# Altium schematic symbol library SCH - MCU - STM32 - ST MICROELECTRONICS STM32L4P5QGIXS UFBGA132.SchLib: 1 symbol
Pins are listed as number, name and electrical type; pins without a type are passive.

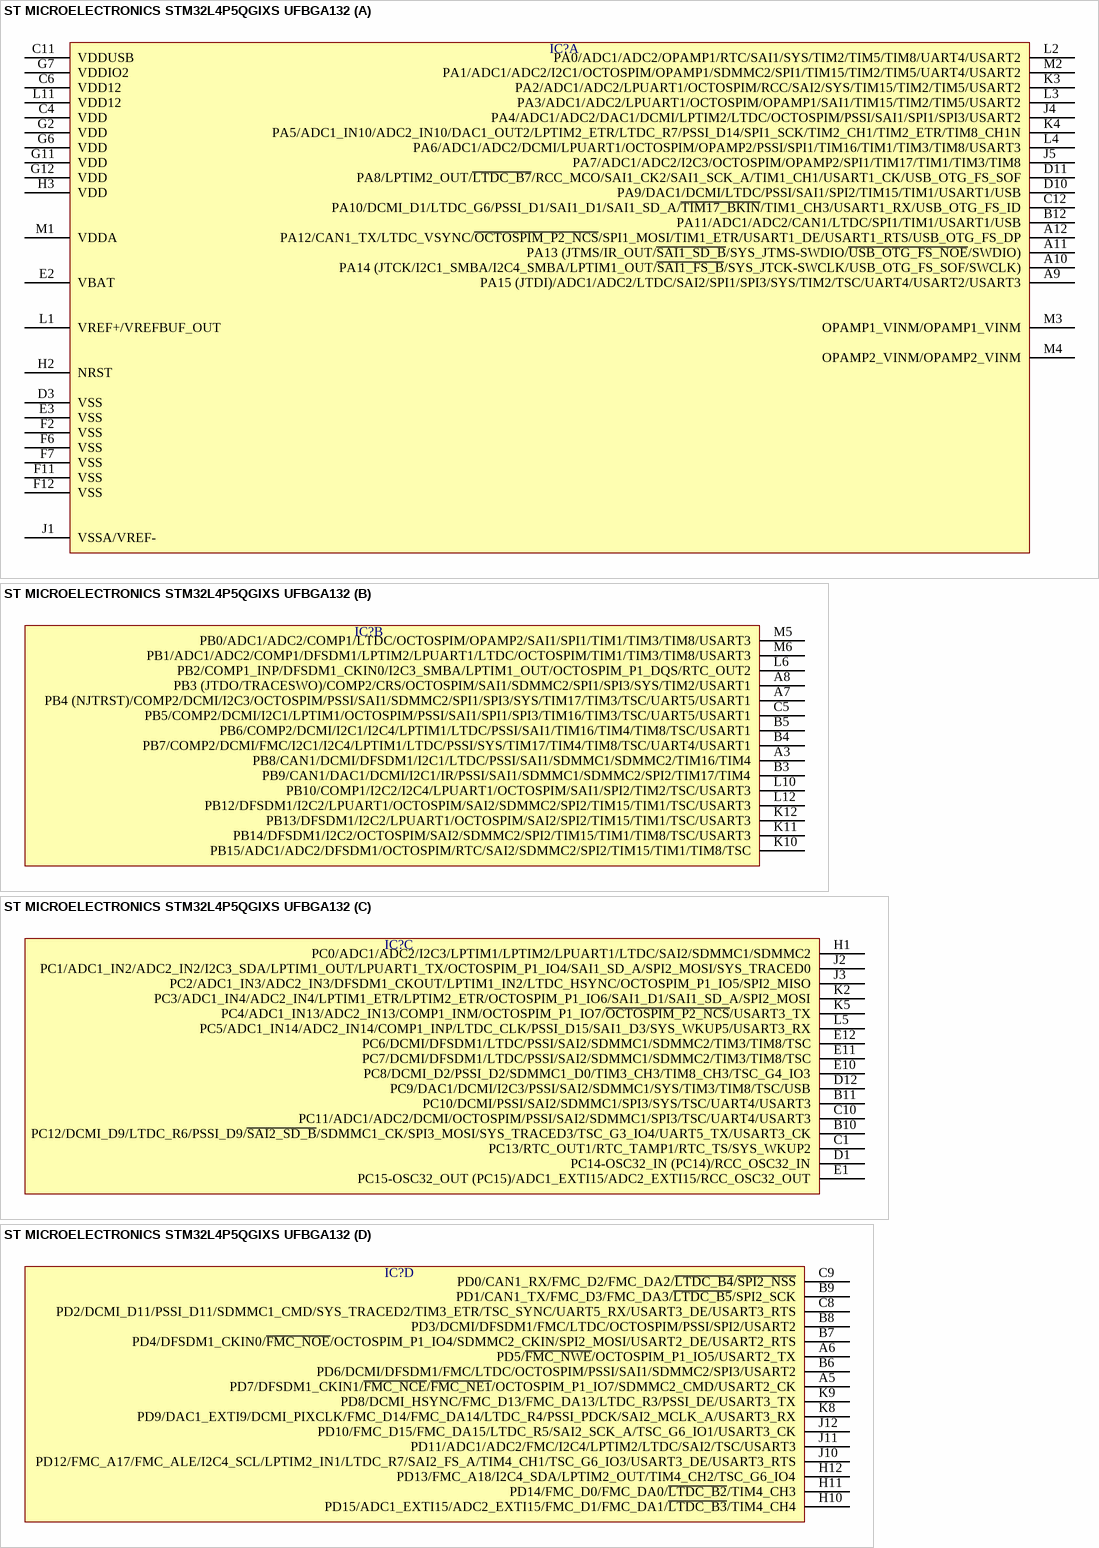
[diagram p0: symbol ST MICROELECTRONICS STM32L4P5QGIXS UFBGA132]

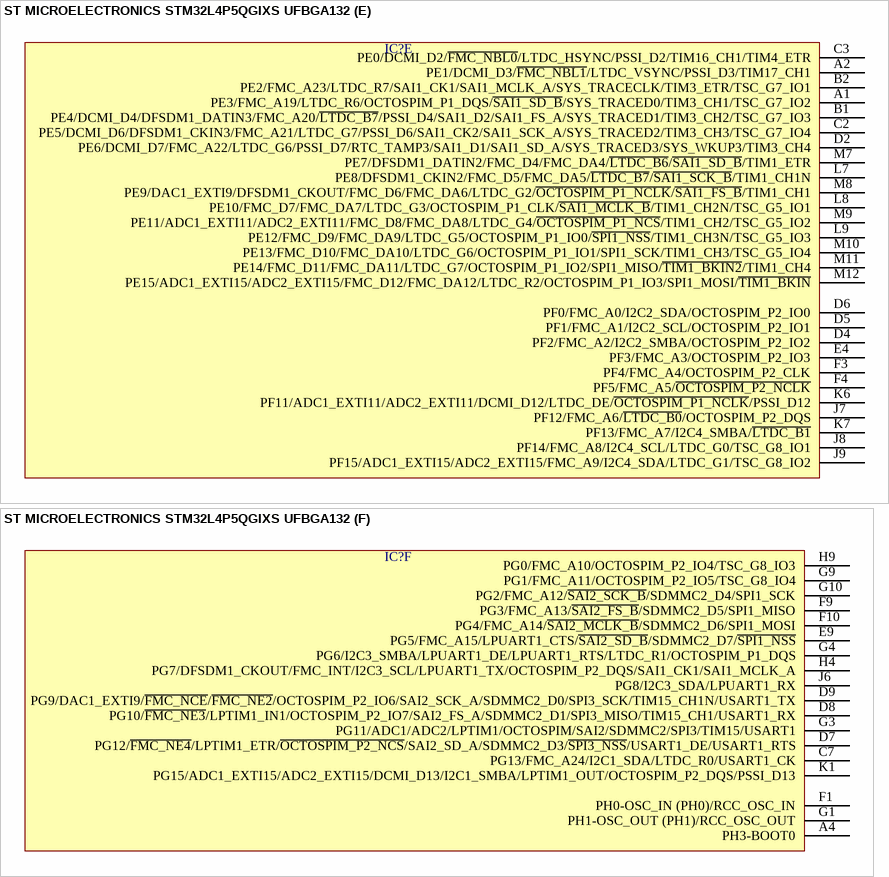
[diagram p1: symbol ST MICROELECTRONICS STM32L4P5QGIXS UFBGA132]

## ST MICROELECTRONICS STM32L4P5QGIXS UFBGA132
designator IC?  (value not drawn)
part A pins: A9 PA15 (JTDI)/ADC1/ADC2/LTDC/SAI2/SPI1/SPI3/SYS/TIM2/TSC/UART4/USART2/USART3, A10 PA14 (JTCK/I2C1_SMBA/I2C4_SMBA/LPTIM1_OUT/~{SAI1_FS_B}/SYS_JTCK-SWCLK/USB_OTG_FS_SOF/SWCLK), A11 PA13 (JTMS/IR_OUT/~{SAI1_SD_B}/SYS_JTMS-SWDIO/~{USB_OTG_FS_NOE}/SWDIO), A12 PA12/CAN1_TX/LTDC_VSYNC/~{OCTOSPIM_P2_NCS}/SPI1_MOSI/TIM1_ETR/USART1_DE/USART1_RTS/USB_OTG_FS_DP, B12 PA11/ADC1/ADC2/CAN1/LTDC/SPI1/TIM1/USART1/USB, C4 VDD, C6 VDD12, C11 VDDUSB, C12 PA10/DCMI_D1/LTDC_G6/PSSI_D1/SAI1_D1/SAI1_SD_A/~{TIM17_BKIN}/TIM1_CH3/USART1_RX/USB_OTG_FS_ID, D3 VSS, D10 PA9/DAC1/DCMI/LTDC/PSSI/SAI1/SPI2/TIM15/TIM1/USART1/USB, D11 PA8/LPTIM2_OUT/~{LTDC_B7}/RCC_MCO/SAI1_CK2/SAI1_SCK_A/TIM1_CH1/USART1_CK/USB_OTG_FS_SOF, E2 VBAT, E3 VSS, F2 VSS, F6 VSS, F7 VSS, F11 VSS, F12 VSS, G2 VDD, G6 VDD, G7 VDDIO2, G11 VDD, G12 VDD, H2 NRST, H3 VDD, J1 VSSA/VREF-, J4 PA4/ADC1/ADC2/DAC1/DCMI/LPTIM2/LTDC/OCTOSPIM/PSSI/SAI1/SPI1/SPI3/USART2, J5 PA7/ADC1/ADC2/I2C3/OCTOSPIM/OPAMP2/SPI1/TIM17/TIM1/TIM3/TIM8, K3 PA2/ADC1/ADC2/LPUART1/OCTOSPIM/RCC/SAI2/SYS/TIM15/TIM2/TIM5/USART2, K4 PA5/ADC1_IN10/ADC2_IN10/DAC1_OUT2/LPTIM2_ETR/LTDC_R7/PSSI_D14/SPI1_SCK/TIM2_CH1/TIM2_ETR/TIM8_CH1N, L1 VREF+/VREFBUF_OUT, L2 PA0/ADC1/ADC2/OPAMP1/RTC/SAI1/SYS/TIM2/TIM5/TIM8/UART4/USART2, L3 PA3/ADC1/ADC2/LPUART1/OCTOSPIM/OPAMP1/SAI1/TIM15/TIM2/TIM5/USART2, L4 PA6/ADC1/ADC2/DCMI/LPUART1/OCTOSPIM/OPAMP2/PSSI/SPI1/TIM16/TIM1/TIM3/TIM8/USART3, L11 VDD12, M1 VDDA, M2 PA1/ADC1/ADC2/I2C1/OCTOSPIM/OPAMP1/SDMMC2/SPI1/TIM15/TIM2/TIM5/UART4/USART2, M3 OPAMP1_VINM/OPAMP1_VINM, M4 OPAMP2_VINM/OPAMP2_VINM
part B pins: A3 PB8/CAN1/DCMI/DFSDM1/I2C1/LTDC/PSSI/SAI1/SDMMC1/SDMMC2/TIM16/TIM4, A7 PB4 (NJTRST)/COMP2/DCMI/I2C3/OCTOSPIM/PSSI/SAI1/SDMMC2/SPI1/SPI3/SYS/TIM17/TIM3/TSC/UART5/USART1, A8 PB3 (JTDO/TRACESWO)/COMP2/CRS/OCTOSPIM/SAI1/SDMMC2/SPI1/SPI3/SYS/TIM2/USART1, B3 PB9/CAN1/DAC1/DCMI/I2C1/IR/PSSI/SAI1/SDMMC1/SDMMC2/SPI2/TIM17/TIM4, B4 PB7/COMP2/DCMI/FMC/I2C1/I2C4/LPTIM1/LTDC/PSSI/SYS/TIM17/TIM4/TIM8/TSC/UART4/USART1, B5 PB6/COMP2/DCMI/I2C1/I2C4/LPTIM1/LTDC/PSSI/SAI1/TIM16/TIM4/TIM8/TSC/USART1, C5 PB5/COMP2/DCMI/I2C1/LPTIM1/OCTOSPIM/PSSI/SAI1/SPI1/SPI3/TIM16/TIM3/TSC/UART5/USART1, K10 PB15/ADC1/ADC2/DFSDM1/OCTOSPIM/RTC/SAI2/SDMMC2/SPI2/TIM15/TIM1/TIM8/TSC, K11 PB14/DFSDM1/I2C2/OCTOSPIM/SAI2/SDMMC2/SPI2/TIM15/TIM1/TIM8/TSC/USART3, K12 PB13/DFSDM1/I2C2/LPUART1/OCTOSPIM/SAI2/SPI2/TIM15/TIM1/TSC/USART3, L6 PB2/COMP1_INP/DFSDM1_CKIN0/I2C3_SMBA/LPTIM1_OUT/OCTOSPIM_P1_DQS/RTC_OUT2, L10 PB10/COMP1/I2C2/I2C4/LPUART1/OCTOSPIM/SAI1/SPI2/TIM2/TSC/USART3, L12 PB12/DFSDM1/I2C2/LPUART1/OCTOSPIM/SAI2/SDMMC2/SPI2/TIM15/TIM1/TSC/USART3, M5 PB0/ADC1/ADC2/COMP1/LTDC/OCTOSPIM/OPAMP2/SAI1/SPI1/TIM1/TIM3/TIM8/USART3, M6 PB1/ADC1/ADC2/COMP1/DFSDM1/LPTIM2/LPUART1/LTDC/OCTOSPIM/TIM1/TIM3/TIM8/USART3
part C pins: B10 PC12/DCMI_D9/LTDC_R6/PSSI_D9/~{SAI2_SD_B}/SDMMC1_CK/SPI3_MOSI/SYS_TRACED3/TSC_G3_IO4/UART5_TX/USART3_CK, B11 PC10/DCMI/PSSI/SAI2/SDMMC1/SPI3/SYS/TSC/UART4/USART3, C1 PC13/RTC_OUT1/RTC_TAMP1/RTC_TS/SYS_WKUP2, C10 PC11/ADC1/ADC2/DCMI/OCTOSPIM/PSSI/SAI2/SDMMC1/SPI3/TSC/UART4/USART3, D1 PC14-OSC32_IN (PC14)/RCC_OSC32_IN, D12 PC9/DAC1/DCMI/I2C3/PSSI/SAI2/SDMMC1/SYS/TIM3/TIM8/TSC/USB, E1 PC15-OSC32_OUT (PC15)/ADC1_EXTI15/ADC2_EXTI15/RCC_OSC32_OUT, E10 PC8/DCMI_D2/PSSI_D2/SDMMC1_D0/TIM3_CH3/TIM8_CH3/TSC_G4_IO3, E11 PC7/DCMI/DFSDM1/LTDC/PSSI/SAI2/SDMMC1/SDMMC2/TIM3/TIM8/TSC, E12 PC6/DCMI/DFSDM1/LTDC/PSSI/SAI2/SDMMC1/SDMMC2/TIM3/TIM8/TSC, H1 PC0/ADC1/ADC2/I2C3/LPTIM1/LPTIM2/LPUART1/LTDC/SAI2/SDMMC1/SDMMC2, J2 PC1/ADC1_IN2/ADC2_IN2/I2C3_SDA/LPTIM1_OUT/LPUART1_TX/OCTOSPIM_P1_IO4/SAI1_SD_A/SPI2_MOSI/SYS_TRACED0, J3 PC2/ADC1_IN3/ADC2_IN3/DFSDM1_CKOUT/LPTIM1_IN2/LTDC_HSYNC/OCTOSPIM_P1_IO5/SPI2_MISO, K2 PC3/ADC1_IN4/ADC2_IN4/LPTIM1_ETR/LPTIM2_ETR/OCTOSPIM_P1_IO6/SAI1_D1/SAI1_SD_A/SPI2_MOSI, K5 PC4/ADC1_IN13/ADC2_IN13/COMP1_INM/OCTOSPIM_P1_IO7/~{OCTOSPIM_P2_NCS}/USART3_TX, L5 PC5/ADC1_IN14/ADC2_IN14/COMP1_INP/LTDC_CLK/PSSI_D15/SAI1_D3/SYS_WKUP5/USART3_RX
part D pins: A5 PD7/DFSDM1_CKIN1/~{FMC_NCE}/~{FMC_NE1}/OCTOSPIM_P1_IO7/SDMMC2_CMD/USART2_CK, A6 PD5/~{FMC_NWE}/OCTOSPIM_P1_IO5/USART2_TX, B6 PD6/DCMI/DFSDM1/FMC/LTDC/OCTOSPIM/PSSI/SAI1/SDMMC2/SPI3/USART2, B7 PD4/DFSDM1_CKIN0/~{FMC_NOE}/OCTOSPIM_P1_IO4/SDMMC2_CKIN/SPI2_MOSI/USART2_DE/USART2_RTS, B8 PD3/DCMI/DFSDM1/FMC/LTDC/OCTOSPIM/PSSI/SPI2/USART2, B9 PD1/CAN1_TX/FMC_D3/FMC_DA3/~{LTDC_B5}/SPI2_SCK, C8 PD2/DCMI_D11/PSSI_D11/SDMMC1_CMD/SYS_TRACED2/TIM3_ETR/TSC_SYNC/UART5_RX/USART3_DE/USART3_RTS, C9 PD0/CAN1_RX/FMC_D2/FMC_DA2/~{LTDC_B4}/~{SPI2_NSS}, H10 PD15/ADC1_EXTI15/ADC2_EXTI15/FMC_D1/FMC_DA1/~{LTDC_B3}/TIM4_CH4, H11 PD14/FMC_D0/FMC_DA0/~{LTDC_B2}/TIM4_CH3, H12 PD13/FMC_A18/I2C4_SDA/LPTIM2_OUT/TIM4_CH2/TSC_G6_IO4, J10 PD12/FMC_A17/FMC_ALE/I2C4_SCL/LPTIM2_IN1/LTDC_R7/SAI2_FS_A/TIM4_CH1/TSC_G6_IO3/USART3_DE/USART3_RTS, J11 PD11/ADC1/ADC2/FMC/I2C4/LPTIM2/LTDC/SAI2/TSC/USART3, J12 PD10/FMC_D15/FMC_DA15/LTDC_R5/SAI2_SCK_A/TSC_G6_IO1/USART3_CK, K8 PD9/DAC1_EXTI9/DCMI_PIXCLK/FMC_D14/FMC_DA14/LTDC_R4/PSSI_PDCK/SAI2_MCLK_A/USART3_RX, K9 PD8/DCMI_HSYNC/FMC_D13/FMC_DA13/LTDC_R3/PSSI_DE/USART3_TX
part E pins: A1 PE3/FMC_A19/LTDC_R6/OCTOSPIM_P1_DQS/~{SAI1_SD_B}/SYS_TRACED0/TIM3_CH1/TSC_G7_IO2, A2 PE1/DCMI_D3/~{FMC_NBL1}/LTDC_VSYNC/PSSI_D3/TIM17_CH1, B1 PE4/DCMI_D4/DFSDM1_DATIN3/FMC_A20/~{LTDC_B7}/PSSI_D4/SAI1_D2/SAI1_FS_A/SYS_TRACED1/TIM3_CH2/TSC_G7_IO3, B2 PE2/FMC_A23/LTDC_R7/SAI1_CK1/SAI1_MCLK_A/SYS_TRACECLK/TIM3_ETR/TSC_G7_IO1, C2 PE5/DCMI_D6/DFSDM1_CKIN3/FMC_A21/LTDC_G7/PSSI_D6/SAI1_CK2/SAI1_SCK_A/SYS_TRACED2/TIM3_CH3/TSC_G7_IO4, C3 PE0/DCMI_D2/~{FMC_NBL0}/LTDC_HSYNC/PSSI_D2/TIM16_CH1/TIM4_ETR, D2 PE6/DCMI_D7/FMC_A22/LTDC_G6/PSSI_D7/RTC_TAMP3/SAI1_D1/SAI1_SD_A/SYS_TRACED3/SYS_WKUP3/TIM3_CH4, D4 PF2/FMC_A2/I2C2_SMBA/OCTOSPIM_P2_IO2, D5 PF1/FMC_A1/I2C2_SCL/OCTOSPIM_P2_IO1, D6 PF0/FMC_A0/I2C2_SDA/OCTOSPIM_P2_IO0, E4 PF3/FMC_A3/OCTOSPIM_P2_IO3, F3 PF4/FMC_A4/OCTOSPIM_P2_CLK, F4 PF5/FMC_A5/~{OCTOSPIM_P2_NCLK}, J7 PF12/FMC_A6/~{LTDC_B0}/OCTOSPIM_P2_DQS, J8 PF14/FMC_A8/I2C4_SCL/LTDC_G0/TSC_G8_IO1, J9 PF15/ADC1_EXTI15/ADC2_EXTI15/FMC_A9/I2C4_SDA/LTDC_G1/TSC_G8_IO2, K6 PF11/ADC1_EXTI11/ADC2_EXTI11/DCMI_D12/LTDC_DE/~{OCTOSPIM_P1_NCLK}/PSSI_D12, K7 PF13/FMC_A7/I2C4_SMBA/~{LTDC_B1}, L7 PE8/DFSDM1_CKIN2/FMC_D5/FMC_DA5/~{LTDC_B7}/~{SAI1_SCK_B}/TIM1_CH1N, L8 PE10/FMC_D7/FMC_DA7/LTDC_G3/OCTOSPIM_P1_CLK/~{SAI1_MCLK_B}/TIM1_CH2N/TSC_G5_IO1, L9 PE12/FMC_D9/FMC_DA9/LTDC_G5/OCTOSPIM_P1_IO0/~{SPI1_NSS}/TIM1_CH3N/TSC_G5_IO3, M7 PE7/DFSDM1_DATIN2/FMC_D4/FMC_DA4/~{LTDC_B6}/~{SAI1_SD_B}/TIM1_ETR, M8 PE9/DAC1_EXTI9/DFSDM1_CKOUT/FMC_D6/FMC_DA6/LTDC_G2/~{OCTOSPIM_P1_NCLK}/~{SAI1_FS_B}/TIM1_CH1, M9 PE11/ADC1_EXTI11/ADC2_EXTI11/FMC_D8/FMC_DA8/LTDC_G4/~{OCTOSPIM_P1_NCS}/TIM1_CH2/TSC_G5_IO2, M10 PE13/FMC_D10/FMC_DA10/LTDC_G6/OCTOSPIM_P1_IO1/SPI1_SCK/TIM1_CH3/TSC_G5_IO4, M11 PE14/FMC_D11/FMC_DA11/LTDC_G7/OCTOSPIM_P1_IO2/SPI1_MISO/~{TIM1_BKIN2}/TIM1_CH4, M12 PE15/ADC1_EXTI15/ADC2_EXTI15/FMC_D12/FMC_DA12/LTDC_R2/OCTOSPIM_P1_IO3/SPI1_MOSI/~{TIM1_BKIN}
part F pins: A4 PH3-BOOT0, C7 PG13/FMC_A24/I2C1_SDA/LTDC_R0/USART1_CK, D7 PG12/~{FMC_NE4}/LPTIM1_ETR/~{OCTOSPIM_P2_NCS}/SAI2_SD_A/SDMMC2_D3/~{SPI3_NSS}/USART1_DE/USART1_RTS, D8 PG10/~{FMC_NE3}/LPTIM1_IN1/OCTOSPIM_P2_IO7/SAI2_FS_A/SDMMC2_D1/SPI3_MISO/TIM15_CH1/USART1_RX, D9 PG9/DAC1_EXTI9/~{FMC_NCE}/~{FMC_NE2}/OCTOSPIM_P2_IO6/SAI2_SCK_A/SDMMC2_D0/SPI3_SCK/TIM15_CH1N/USART1_TX, E9 PG5/FMC_A15/LPUART1_CTS/~{SAI2_SD_B}/SDMMC2_D7/~{SPI1_NSS}, F1 PH0-OSC_IN (PH0)/RCC_OSC_IN, F9 PG3/FMC_A13/~{SAI2_FS_B}/SDMMC2_D5/SPI1_MISO, F10 PG4/FMC_A14/~{SAI2_MCLK_B}/SDMMC2_D6/SPI1_MOSI, G1 PH1-OSC_OUT (PH1)/RCC_OSC_OUT, G3 PG11/ADC1/ADC2/LPTIM1/OCTOSPIM/SAI2/SDMMC2/SPI3/TIM15/USART1, G4 PG6/I2C3_SMBA/LPUART1_DE/LPUART1_RTS/LTDC_R1/OCTOSPIM_P1_DQS, G9 PG1/FMC_A11/OCTOSPIM_P2_IO5/TSC_G8_IO4, G10 PG2/FMC_A12/~{SAI2_SCK_B}/SDMMC2_D4/SPI1_SCK, H4 PG7/DFSDM1_CKOUT/FMC_INT/I2C3_SCL/LPUART1_TX/OCTOSPIM_P2_DQS/SAI1_CK1/SAI1_MCLK_A, H9 PG0/FMC_A10/OCTOSPIM_P2_IO4/TSC_G8_IO3, J6 PG8/I2C3_SDA/LPUART1_RX, K1 PG15/ADC1_EXTI15/ADC2_EXTI15/DCMI_D13/I2C1_SMBA/LPTIM1_OUT/OCTOSPIM_P2_DQS/PSSI_D13